# Altium footprint library Magnetics$.PcbLib: 44 footprints (part 3 of 3)
Each footprint in its own frame and in the unit in brackets; x right, y up, seen from the top. Pads: shape width x height; smd on the part's side, far side on the other; paste and mask are expansions set on the pad; w line width, h text height; cw(c..) or ccw(c..) is an arc to the next point about the centre after c.
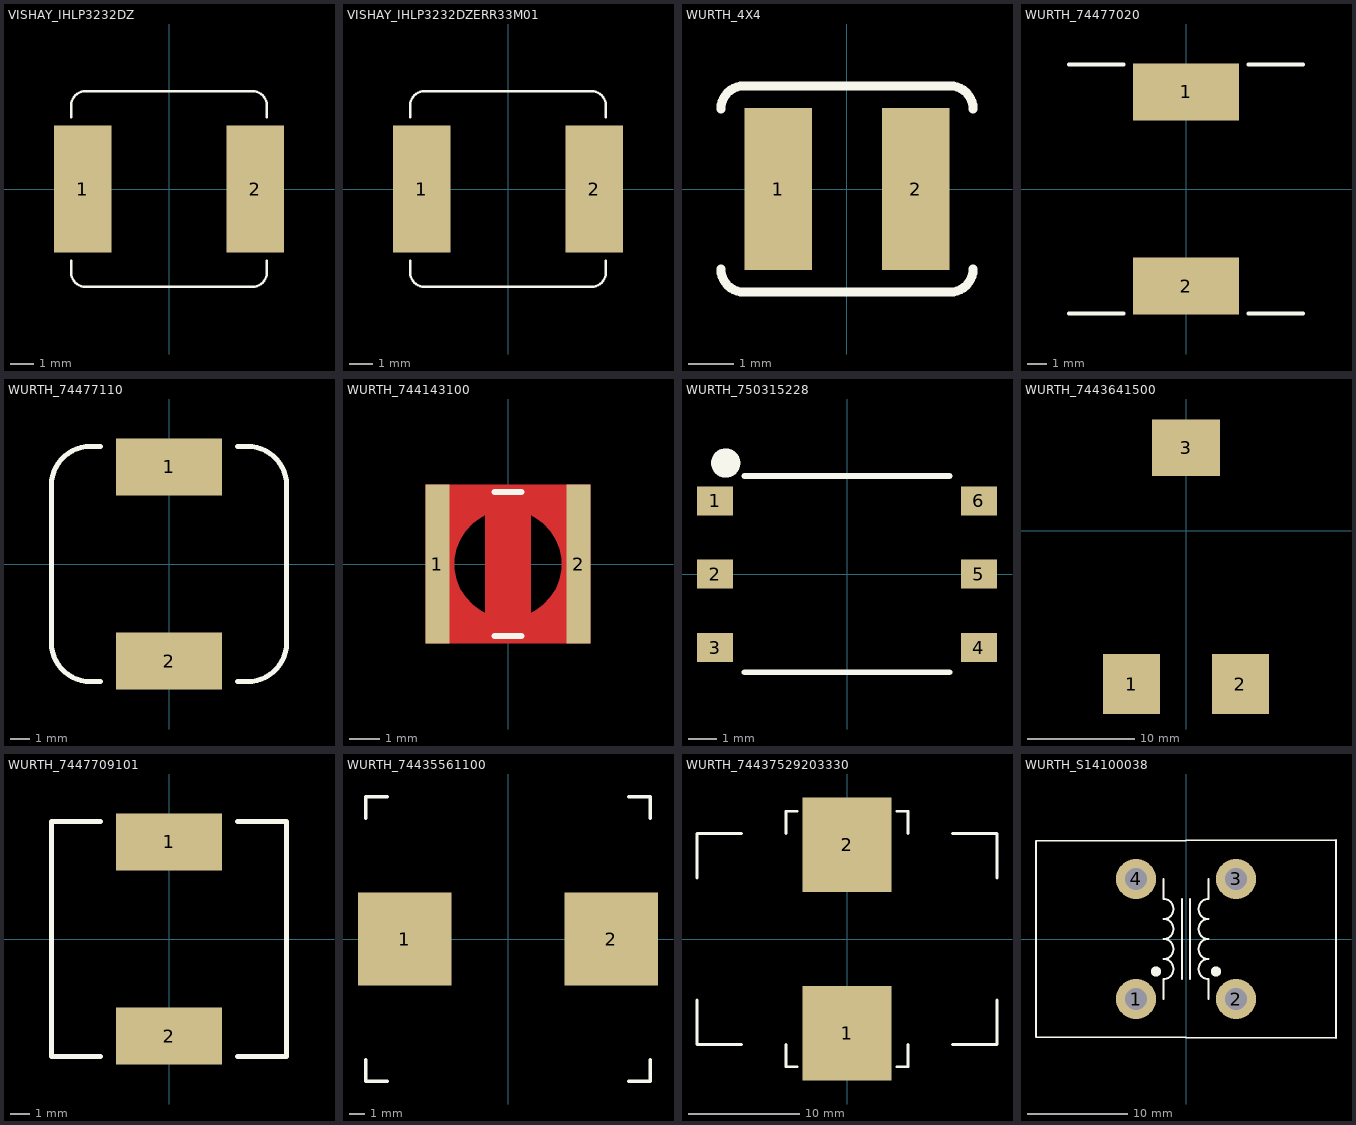
[diagram p2: the footprints below, top view; thin cyan lines are the x and y axes]

## VISHAY_IHLP3232DZ [mil] "Inductor, Vishay Dale, IHLP-3232DZ series"
pads (2):
  rect 95x210 smd: 1(-142.52,0) 2(142.52,0)
Top Overlay:
  lines w3.94: -161.42,-118.11 -161.42,-137.8 ccw(c-137.8,-137.8) -137.8,-161.42 137.8,-161.42 ccw(c137.8,-137.8) 161.42,-137.8 161.42,-118.11 ; -161.42,118.11 -161.42,137.8 cw(c-137.8,137.8) -137.8,161.42 0,161.42 137.8,161.42 cw(c137.8,137.8) 161.42,137.8 161.42,118.11
3D body: height 157.48, standoff 0, extent -161.42,-161.42 161.42,161.42

## VISHAY_IHLP3232DZERR33M01 [mil] "Inductor, Vishay Dale, IHLP3232DZERR33M01"
pads (2):
  rect 95x210 smd: 1(-142.52,0) 2(142.52,0)
Top Overlay:
  lines w3.94: -161.42,-118.11 -161.42,-137.8 ccw(c-137.8,-137.8) -137.8,-161.42 137.8,-161.42 ccw(c137.8,-137.8) 161.42,-137.8 161.42,-118.11 ; -161.42,118.11 -161.42,137.8 cw(c-137.8,137.8) -137.8,161.42 0,161.42 137.8,161.42 cw(c137.8,137.8) 161.42,137.8 161.42,118.11

## WURTH_4X4 [mm]
pads (2):
  rect 1.5x3.6 smd mask+0.1: 1(-1.525,0) 2(1.525,0)
Top Overlay:
  lines w0.2: -2.794,-1.778 ccw(c-2.286,-1.778) -2.286,-2.286 2.286,-2.286 ccw(c2.286,-1.778) 2.794,-1.778 ; -2.794,1.778 cw(c-2.286,1.778) -2.286,2.286 2.286,2.286 cw(c2.286,1.778) 2.794,1.778
3D body "74404042010_Download_STP_WE-LQS-4018_rev1.stp": height 1.8, standoff 0, extent -2,-2 2,2

## WURTH_74477020 [mm]
pads (2):
  rect 5.4x2.9 smd mask+0.1: 1(0,4.95) 2(0,-4.95)
Top Overlay:
  lines w0.2: -5.969,-6.35 -3.175,-6.35 ; -5.969,6.35 -3.175,6.35 ; 3.175,-6.35 5.969,-6.35 ; 3.175,6.35 5.969,6.35
3D body "74477001_Download_WE-PD_1280_STP_rev1.stp": height 7.26, standoff -0.2, extent -6,-6 6,6

## WURTH_74477110 [mm] "Wurth 74477110 inductor"
pads (2):
  rect 5.4x2.9 smd: 1(0,4.95) 2(0,-4.95)
Top Overlay:
  lines w0.254: -4,6 ccw(c-4,4) -6,4 -6,-4 ccw(c-4,-4) -4,-6 -3.5,-6 ; -4,6 -3.5,6 ; 3.5,-6 4,-6 ccw(c4,-4) 6,-4 6,4 ccw(c4,4) 4,6 ; 3.5,6 4,6
3D body "WURTH_74477110.stp": height 5.46, standoff -0.2, extent -6,-6 6,6

## WURTH_744143100 [mm]
pads (2):
  rect 0.8x5.3 smd: 1(-2.35,0) 2(2.35,0)
Top Layer:
  pour cut-out: -0.75,2.65 -0.75,-2.65 0.75,-2.65 0.75,2.65
  region: 0.75,-2.65 0.75,-1.636 0.902,-1.558 1.181,-1.359 1.417,-1.111 1.601,-0.822 1.728,-0.504 1.792,-0.168 1.792,0.174 1.726,0.51 1.599,0.827 1.413,1.115 1.176,1.362 0.897,1.56 0.745,1.639 0.75,1.639 0.75,2.65 2.75,2.65 2.75,-2.65
  region: -2.75,-2.65 -2.75,2.65 -0.75,2.65 -0.75,1.639 -0.745,1.639 -0.897,1.56 -1.176,1.362 -1.413,1.115 -1.599,0.827 -1.726,0.51 -1.792,0.174 -1.792,-0.168 -1.728,-0.504 -1.601,-0.822 -1.417,-1.111 -1.181,-1.359 -0.902,-1.558 -0.75,-1.636 -0.75,-2.65
Top Overlay:
  lines w0.2: -0.45,-2.4 0.45,-2.4 ; -0.45,2.4 0.45,2.4
Top Paste:
  region: -2.75,-2.65 -2.75,2.65 -0.75,2.65 -0.75,1.582 -0.895,1.505 -1.161,1.311 -1.385,1.071 -1.561,0.793 -1.682,0.488 -1.743,0.165 -1.743,-0.164 -1.682,-0.487 -1.561,-0.792 -1.385,-1.07 -1.161,-1.31 -0.895,-1.504 -0.75,-1.581 -0.75,-2.65
  region: 2.75,-2.65 2.75,2.65 0.75,2.65 0.75,1.582 0.895,1.505 1.161,1.311 1.385,1.071 1.561,0.793 1.682,0.488 1.743,0.165 1.743,-0.164 1.682,-0.487 1.561,-0.792 1.385,-1.07 1.161,-1.31 0.895,-1.504 0.75,-1.581 0.75,-2.65
Top Solder:
  region: 2.8,-2.75 2.8,2.75 0.65,2.75 0.65,1.625 0.808,1.552 1.098,1.363 1.345,1.12 1.54,0.833 1.674,0.513 1.742,0.173 1.742,-0.174 1.674,-0.514 1.54,-0.834 1.346,-1.121 1.098,-1.364 0.808,-1.553 0.65,-1.626 0.65,-2.75
  region: -2.8,-2.75 -2.8,2.75 -0.65,2.75 -0.65,1.626 -0.808,1.553 -1.098,1.364 -1.345,1.121 -1.54,0.834 -1.674,0.514 -1.742,0.174 -1.742,-0.173 -1.674,-0.513 -1.54,-0.833 -1.345,-1.12 -1.098,-1.363 -0.808,-1.553 -0.65,-1.625 -0.65,-2.75
3D body "744043003_WE-TPC-4828.stp": height 2.78, standoff -0.02, extent -2.4,-2.4 2.4,2.4

## WURTH_750315228 [mm]
pads (6):
  rect 1.25x1 smd: 1(-4.57,2.54) 2(-4.57,0) 3(-4.57,-2.54) 4(4.57,-2.54) 5(4.57,0) 6(4.57,2.54)
Top Overlay:
  circle w0.5: c-4.2,3.85 r0.255
  lines w0.2: -3.55,-3.4 3.55,-3.4 ; -3.55,3.4 3.55,3.4
3D body: height 4.19, standoff 0, extent -3.575,-3.375 3.575,3.375

## WURTH_7443641500 [mm] "Wurth Surface Mount Inductor 7443641500"
pads (3):
  rect 5.33x5.59 smd: 1(-5.075,-14.355) 2(5.075,-14.355)
  rect 6.35x5.28 smd: 3(0,7.72)
3D body "WURTH_7443641500.SLDPRT": height 18.5, standoff 0, extent -14,-16.5 14,10.8

## WURTH_7447709101 [mm] "Wurth 7447709101 inductor"
pads (2):
  rect 5.4x2.9 smd: 1(0,4.95) 2(0,-4.95)
Top Overlay:
  lines w0.254: -3.5,-6 -6,-6 -6,6 -3.5,6 ; 3.5,-6 6,-6 6,6 3.5,6
3D body "7447709101.stp": height 9.46, standoff 0, extent -6,-6 6,6

## WURTH_74435561100 [mm] "WE-HCI Series"
pads (2):
  rect 6x6 smd: 1(-6.65,0) 2(6.65,0)
Top Overlay:
  lines w0.2: -9.15,-7.75 -9.15,-9.15 -7.75,-9.15 ; -9.15,7.75 -9.15,9.15 -7.75,9.15 ; 7.75,-9.15 9.15,-9.15 9.15,-7.75 ; 7.75,9.15 9.15,9.15 9.15,7.75
3D body: height 9, standoff 0, extent -9.15,-9.15 9.15,9.15

## WURTH_74437529203330 [mm]
pads (2):
  rect 8x8.5 smd: 1(0,-8.5) 2(0,8.5)
Top Overlay:
  lines w0.254: -13.5,-5.5 -13.5,-9.5 -9.5,-9.5 ; -13.5,5.5 -13.5,9.5 -9.5,9.5 ; -5.5,-9.5 -5.5,-11.5 -4.5,-11.5 ; -5.5,9.5 -5.5,11.5 -4.5,11.5 ; 4.5,-11.5 5.5,-11.5 5.5,-9.5 ; 4.5,11.5 5.5,11.5 5.5,9.5 ; 9.5,-9.5 13.5,-9.5 13.5,-5.5 ; 9.5,9.5 13.5,9.5 13.5,5.5
3D body: height 20.5, standoff 0, extent -13.5,-9.5 13.5,9.5

## WURTH_S14100038 [mm] "Wurth Common-Mode-Choke S14100038"
pads (4):
  round 4 hole 2.2: 1(-5,-6) 2(5,-6) 3(5,6) 4(-5,6)
Top Overlay:
  circle w0.5: c3,-3.25 r0.255
  circle w0.5: c-3,-3.25 r0.255
  lines w0.2: -2.25,-6 -2.25,-4 ccw(c-2.25,-3) -2.25,-2 ccw(c-2.25,-1) -2.25,0 ccw(c-2.25,1) -2.25,2 ccw(c-2.25,3) -2.25,4 -2.25,6 ; -0.4,-4 -0.4,4 ; 0.4,-4 0.4,4 ; 2.25,-6 2.25,-4 cw(c2.25,-3) 2.25,-2 cw(c2.25,-1) 2.25,0 cw(c2.25,1) 2.25,2 cw(c2.25,3) 2.25,4 2.25,6 ; -15,-9.8 -15,9.8 15,9.9 15,-9.9 -15,-9.8
3D body: height 29, standoff 0, extent -15,-9.9 15,9.9